# EAGLE library part ADAU1372 (library Analog Devices)
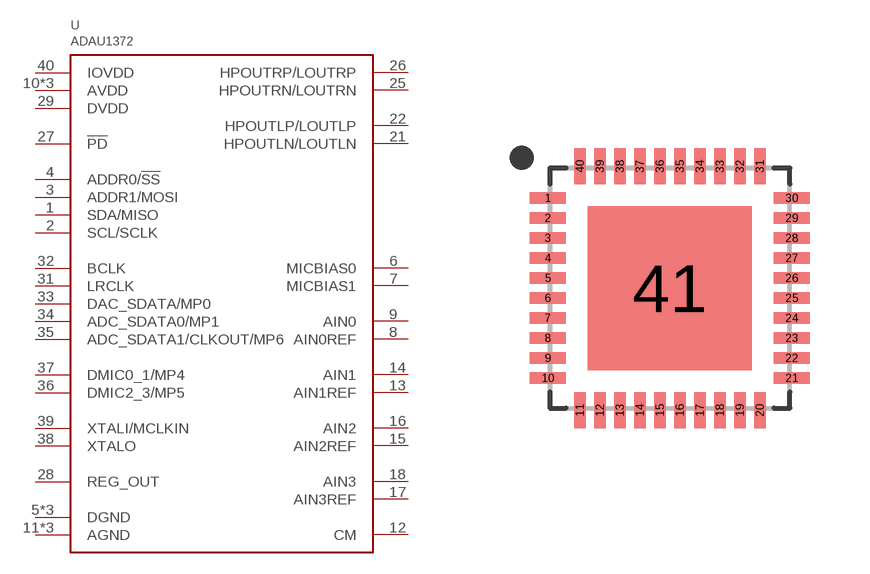
[diagram p44: symbol with the pads of QFN40; footprint QFN40]

Designator prefix U

## ADAU1372  [QFN40]
1  SDA/MISO
2  SCL/SCLK
3  ADDR1/MOSI
4  ADDR0/!SS
5  DGND
6  MICBIAS0
7  MICBIAS1
8  AIN0REF
9  AIN0
10  AVDD
11  AGND
12  CM
13  AIN1REF
14  AIN1
15  AIN2REF
16  AIN2
17  AIN3REF
18  AIN3
19  AVDD
20  AGND
21  HPOUTLN/LOUTLN
22  HPOUTLP/LOUTLP
23  AGND
24  AVDD
25  HPOUTRN/LOUTRN
26  HPOUTRP/LOUTRP
27  !PD
28  REG_OUT
29  DVDD
30  DGND
31  LRCLK
32  BCLK
33  DAC_SDATA/MP0
34  ADC_SDATA0/MP1
35  ADC_SDATA1/CLKOUT/MP6
36  DMIC2_3/MP5
37  DMIC0_1/MP4
38  XTALO
39  XTALI/MCLKIN
40  IOVDD
41  DGND

## Footprint QFN40 (pad centres in mm)
smd 0.9 x 0.29: 1 -3.05,2.25; 2 -3.05,1.75; 3 -3.05,1.25; 4 -3.05,0.75; 5 -3.05,0.25; 6 -3.05,-0.25; 7 -3.05,-0.75; 8 -3.05,-1.25; 9 -3.05,-1.75; 10 -3.05,-2.25; 21 3.05,-2.25; 22 3.05,-1.75; 23 3.05,-1.25; 24 3.05,-0.75; 25 3.05,-0.25; 26 3.05,0.25; 27 3.05,0.75; 28 3.05,1.25; 29 3.05,1.75; 30 3.05,2.25
smd 0.29 x 0.9: 11 -2.25,-3.05; 12 -1.75,-3.05; 13 -1.25,-3.05; 14 -0.75,-3.05; 15 -0.25,-3.05; 16 0.25,-3.05; 17 0.75,-3.05; 18 1.25,-3.05; 19 1.75,-3.05; 20 2.25,-3.05; 31 2.25,3.05; 32 1.75,3.05; 33 1.25,3.05; 34 0.75,3.05; 35 0.25,3.05; 36 -0.25,3.05; 37 -0.75,3.05; 38 -1.25,3.05; 39 -1.75,3.05; 40 -2.25,3.05
smd 4.1 x 4.1: 41 0,0